# EAGLE library part BU2500 (library OpenMotics)
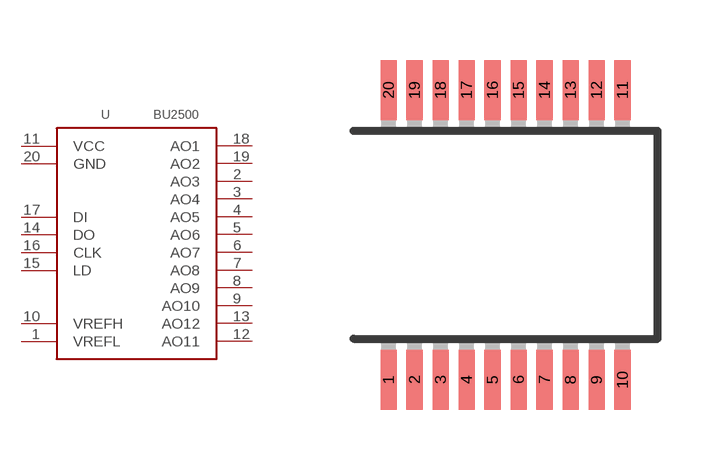
[diagram p9: symbol with the pads of SSOP20; footprint SSOP20]

Designator prefix U

## BU2500  [SSOP20]
1  VREFL
2  AO3
3  AO4
4  AO5
5  AO6
6  AO7
7  AO8
8  AO9
9  AO10
10  VREFH
11  VCC
12  AO11
13  AO12
14  DO
15  LD
16  CLK
17  DI
18  AO1
19  AO2
20  GND

## Footprint SSOP20 (pad centres in mm)
smd 0.4 x 1.5: 1 -2.925,-3.625; 2 -2.275,-3.625; 3 -1.625,-3.625; 4 -0.975,-3.625; 5 -0.325,-3.625; 6 0.325,-3.625; 7 0.975,-3.625; 8 1.625,-3.625; 9 2.275,-3.625; 10 2.925,-3.625; 11 2.925,3.625; 12 2.275,3.625; 13 1.625,3.625; 14 0.975,3.625; 15 0.325,3.625; 16 -0.325,3.625; 17 -0.975,3.625; 18 -1.625,3.625; 19 -2.275,3.625; 20 -2.925,3.625